# Altium schematic symbol library SF-0603SP050-2.SchLib: 1 symbol
Pins are listed as number, name and electrical type; pins without a type are passive.

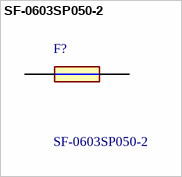
[diagram p0: symbol SF-0603SP050-2]

## SF-0603SP050-2
designator F?
BOURNS - SF-0603SP050-2 - Fuse, Surface Mount, 500 mA, SinglFuse SF-0603SP Series, 50 V, Time Delay, 0603; Geometry.Height: 0.55mm; Farnell Part Number: *; Farnell Price/Stock: *; Manufacturer_Name: Bourns; Manufacturer_Part_Number: SF-0603SP050-2; Datasheet Link: https://g.componentsearchengine.com/Datasheets/2/SF-0603SP050-2.pdf
footprint FUSC1608X55N
pins: 1, 2